# Altium schematic symbol library TL494.SchLib: 1 symbol
Pins are listed as number, name and electrical type; pins without a type are passive.

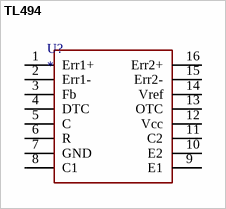
[diagram p0: symbol TL494]

## TL494
designator U?
Pulse Width Modulation Control
footprint SOIC16
pins: 1 Err1+ "Termal Pad", 2 Err1- "Termal Pad", 3 Fb "Termal Pad", 4 DTC "Termal Pad", 5 C "Termal Pad", 6 R "Termal Pad", 7 GND "Termal Pad", 8 C1 "Termal Pad", 9 E1 "Termal Pad", 10 E2 "Termal Pad", 11 C2 "Termal Pad", 12 Vcc "Termal Pad", 13 OTC "Termal Pad", 14 Vref "Termal Pad", 15 Err2- "Termal Pad", 16 Err2+ "Termal Pad"